# Altium schematic symbol library stm8.SchLib: 1 symbol
Pins are listed as number, name and electrical type; pins without a type are passive.

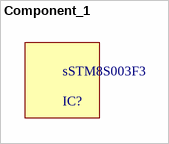
[diagram p0: symbol Component_1]

## Component_1
designator sSTM8S003F3, comment IC?